# Altium footprint library PcbLib1.PcbLib: 56 footprints (part 2 of 4)
Each footprint in its own frame and in the unit in brackets; x right, y up, seen from the top. Pads: shape width x height; smd on the part's side, far side on the other; paste and mask are expansions set on the pad; w line width, h text height; cw(c..) or ccw(c..) is an arc to the next point about the centre after c.
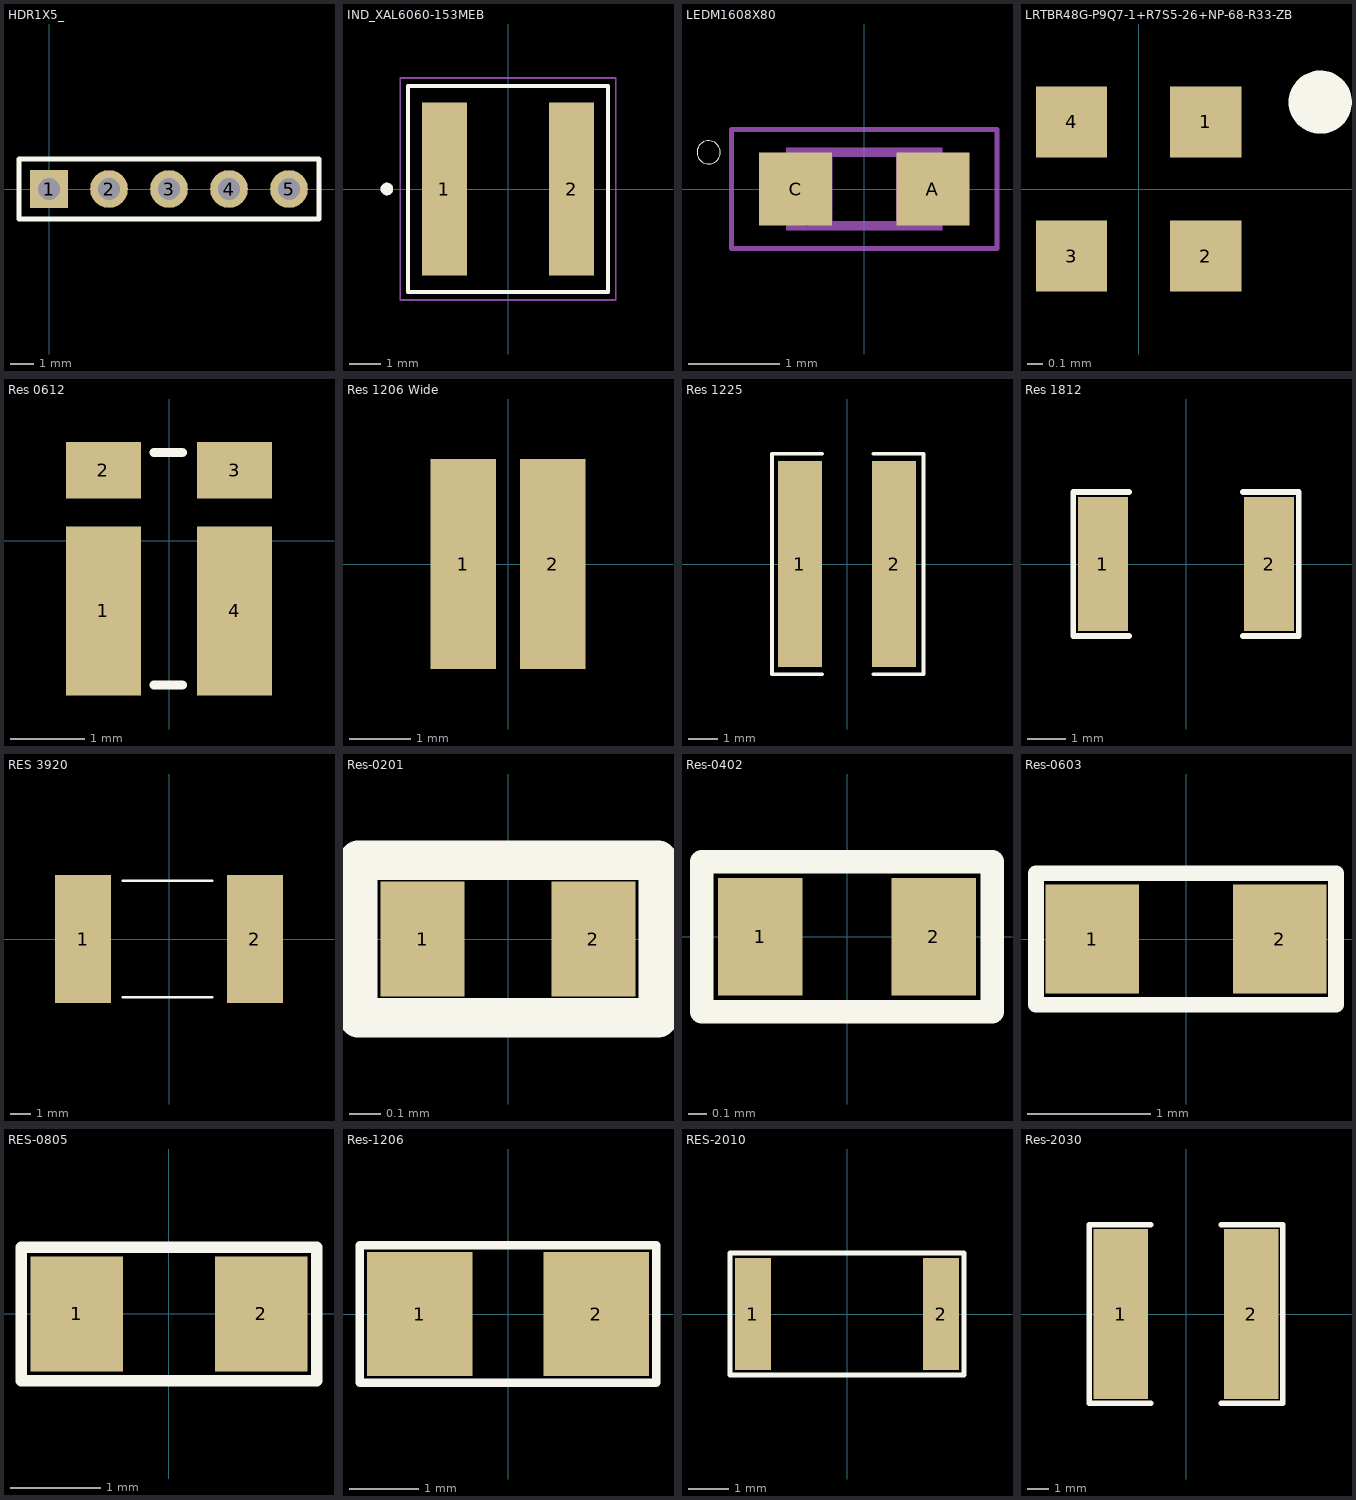
[diagram p1: the footprints below, top view; thin cyan lines are the x and y axes]

## HDR1X5_ [mm] "Connector; Header; 5 Position"
pads (5):
  rect 1.6x1.6 hole 0.95: 1(0,0)
  round 1.6 hole 0.95: 2(2.54,0) 3(5.08,0) 4(7.62,0) 5(10.16,0)
Top Overlay:
  lines w0.2: -1.27,-1.27 -1.27,1.27 11.43,1.27 11.43,-1.27 -1.27,-1.27
3D body "CircuitWorks-HEADER 2_54 VERTICAL 5X.step": height 8.65, standoff -2.35, extent -1.27,-1.27 11.43,1.23

## IND_XAL6060-153MEB [mm]
height 3.1
pads (2):
  rect 1.43x5.5 smd: 1(-2.02,0) 2(2.02,0)
Top Overlay:
  circle w0.2: c-3.85,0 r0.1
  lines w0.127: -3.18,-3.28 -3.18,3.28 3.18,3.28 3.18,-3.28 -3.18,-3.28
Mechanical 13:
  circle w0.2: c-3.85,0 r0.1
  lines w0.127: -3.18,-3.28 -3.18,3.28 3.18,3.28 3.18,-3.28 -3.18,-3.28
Mechanical 15:
  lines w0.05: -3.43,-3.53 3.43,-3.53 3.43,3.53 -3.43,3.53 -3.43,-3.53
3D body "step_temp.STEP": height 6.1, standoff 0, extent -3.18,-3.28 3.18,3.28

## LEDM1608X80 [mm]
pads (2):
  rect 0.8x0.8 smd: A(0.75,0) C(-0.75,0)
Top Overlay:
  circle w0: c-1.7,0.4 r0.127
Mechanical 13:
  circle w0.051: c-0.625,-0.35 r0.075
  region: -0.7,-0.451 -0.851,-0.451 -0.851,-0.25 -0.7,-0.25
  region: -0.55,-0.276 -0.601,-0.276 -0.601,-0.225 -0.55,-0.225
  region: -0.35,-0.45 -0.725,-0.45 -0.725,-0.4 -0.35,-0.4
  region: -0.551,0.25 -0.85,0.25 -0.85,0.451 -0.551,0.451
  region: -0.351,-0.451 -0.576,-0.451 -0.576,0.451 -0.351,0.451
  region: 0.851,-0.45 0.35,-0.45 0.35,-0.251 0.851,-0.251
  region: 0.85,0.25 0.35,0.25 0.35,0.45 0.85,0.45
  region: 0.575,-0.275 0.35,-0.275 0.35,0.275 0.575,0.275
  region: 0.65,-0.275 0.55,-0.275 0.55,-0.175 0.65,-0.175
  region: 0.65,0.175 0.55,0.175 0.55,0.275 0.65,0.275
  lines w0.051: 0.825,-0.275 cw(c0.825,0) 0.825,0.275
  lines w0.102: -0.8,-0.3 ccw(c-0.826,0) -0.8,0.3 ; -0.375,-0.4 0.35,-0.4 ; -0.35,0.4 0.35,0.4
Mechanical 15:
  lines w0.05: -1.45,-0.65 1.45,-0.65 1.45,0.65 -1.45,0.65 -1.45,-0.65

## LRTBR48G-P9Q7-1+R7S5-26+NP-68-R33-ZB [mm]
pads (4):
  rect 0.45x0.45 smd paste-0.05: 1(0.425,0.425) 2(0.425,-0.425) 3(-0.425,-0.425) 4(-0.425,0.425)
Top Overlay:
  circle w0.2: c1.15,0.55 r0.1

## Res 0612 [mil]
pads (4):
  rect 40x90 smd: 1(-35,-37.5) 4(35,-37.5)
  rect 40x30 smd: 2(-35,37.5) 3(35,37.5)
Top Overlay:
  lines w5: -8,-77 7,-77 ; -8,47 7,47
3D body "WSKW0612.stp": height 17.99, standoff 0, extent -29.53,-75.04 29.53,45.04

## Res 1206 Wide [mm]
pads (2):
  rect 1.06x3.42 smd: 1(-0.728,0) 2(0.728,0)
3D body "PRL1632-R010-F-T1.step": height 0.6, standoff 0, extent -0.8,-1.6 0.8,1.6

## Res 1225 [mm]
pads (2):
  rect 1.5x7 smd: 1(-1.6,0) 2(1.6,0)
Top Overlay:
  lines w0.127: -0.849,-3.75 -2.549,-3.75 -2.549,3.75 -0.849,3.75 ; 0.9,-3.75 2.6,-3.75 2.6,3.75 0.9,3.75
3D body "C3001870.step": height 0.55, standoff 0, extent -1.6,-3.2 1.6,3.2

## Res 1812 [mil]
pads (2):
  rect 50.49x136.06 smd paste-3937.01 mask+2: 1(-84.3,0) 2(84.3,0)
Top Overlay:
  lines w6: -58.05,-73 -114.55,-73 -114.55,73.03 -58.05,73.03 ; 58.05,-73 114.55,-73 114.55,73.03 58.05,73.03
Top Paste:
  region: 59.05,-64.09 59.05,-27.07 62.99,-23.13 72.29,-23.13 76.22,-19.19 76.22,19.19 72.29,23.13 62.99,23.13 59.05,27.07 59.05,64.09 62.99,68.03 105.61,68.03 109.55,64.09 109.55,-64.09 105.61,-68.03 62.99,-68.03
  region: -59.05,-64.09 -59.05,-27.07 -62.99,-23.13 -72.29,-23.13 -76.22,-19.19 -76.22,19.19 -72.29,23.13 -62.99,23.13 -59.05,27.07 -59.05,64.09 -62.99,68.03 -105.61,68.03 -109.55,64.09 -109.55,-64.09 -105.61,-68.03 -62.99,-68.03
3D body "C2933911.step": height 87.05, standoff 62.99, extent -88.58,-62.99 88.58,62.99

## RES 3920 [mm]
pads (2):
  rect 2.7x6.2 smd: 1(-4.15,0) 2(4.15,0)
Top Overlay:
  lines w0.127: -2.235,-2.819 2.083,-2.819 ; -2.235,2.819 2.083,2.819
3D body "User Library-LRMAP3920.step": height 1.99, standoff -0.01, extent -5.46,-2.751 5.46,2.769

## Res-0201 [mm]
pads (2):
  rect 0.27x0.37 smd mask+0.055: 1(-0.275,0) 2(0.275,0)
Top Overlay:
  lines w0.127: -0.483,-0.254 0.483,-0.254 0.483,0.254 -0.483,0.254 -0.483,-0.254
3D body "User Library-0201(0603M) Res.step": height 0.29, standoff -0.02, extent -0.305,-0.152 0.305,0.153

## Res-0402 [mil]
pads (2):
  rect 18x25 smd mask+2.17: 1(-18.5,0) 2(18.5,0)
Top Overlay:
  lines w0.13: -32,-17 32,-17
  lines w5: -31,-16 31,-16 31,16 -31,16 -31,-16
3D body "User Library-RES_1005-0402.step": height 16.14, standoff 0, extent -22.63,-10.82 22.64,10.83

## Res-0603 [mil]
pads (2):
  rect 30x35 smd: 1(-30,0) 2(30,0)
Top Overlay:
  lines w5: -48,-21 -48,21 48,21 48,-21 -48,-21
3D body "User Library-RESC1608X05N.step": height 17.76, standoff 0, extent -30.52,-16.74 30.51,16.73

## RES-0805 [mil] "SMD 0805"
pads (2):
  rect 40x50 smd: 1(-40,0) 2(40,0)
Top Overlay:
  lines w5: -64,-29 -64,29 64,29 64,-29 -64,-29
3D body "User Library-CR2012-0805.STEP": height 23.62, standoff 0, extent -39.34,-24.75 39.4,24.46

## Res-1206 [mil]
pads (2):
  rect 60x70 smd: 1(-50,0) 2(50,0)
Top Overlay:
  lines w5: -84,-39 -84,39 84,39 84,-39 -84,-39
3D body "User Library-CR3216-1206.step": height 23.62, standoff 0, extent -62.99,-31.5 62.99,31.5

## RES-2010 [mm]
pads (2):
  rect 0.9x2.8 smd: 1(-2.35,0) 2(2.35,0)
Top Overlay:
  lines w0.127: -2.921,-1.524 -2.921,1.524 2.921,1.524 2.921,-1.524 -2.921,-1.524
3D body "User Library-R_2010.STEP": height 0.6, standoff 0, extent -2.5,-1.25 2.5,1.25

## Res-2030 [mm]
pads (2):
  rect 2.5x7.8 smd paste+0 mask+0.051: 1(-3,0) 2(3,0)
Top Overlay:
  lines w0.254: -1.626,-4.097 -4.448,-4.097 -4.448,4.097 -1.626,4.097 ; 1.626,-4.097 4.448,-4.097 4.448,4.097 1.626,4.097
3D body "C175634.step": height 1.2, standoff 0, extent -2.55,-3.8 2.55,3.8